# EAGLE library part 4-794620-4 (library con-tyco-micro-mate-n-lok2)
Through Hole 14pos 2row
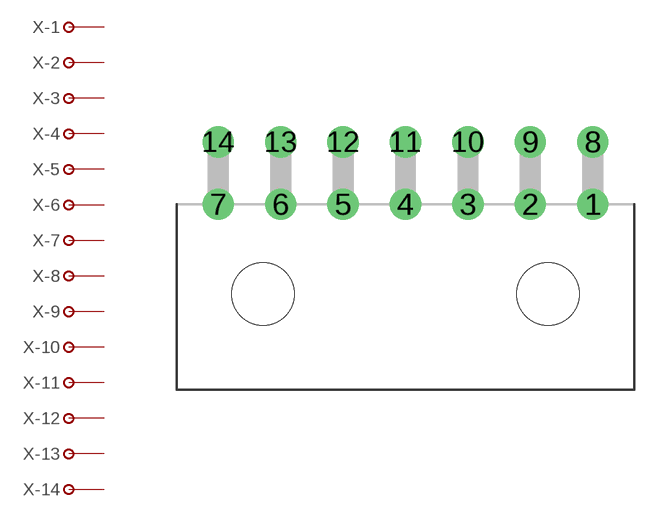
[diagram p0: symbol with the pads of THROUGH_VERTICAL_7X2; footprint THROUGH_VERTICAL_7X2]

Designator prefix X; gates -1=PIN -2=PIN -3=PIN -5=PIN -4=PIN -6=PIN -7=PIN -8=PIN -9=PIN -10=PIN -12=PIN -11=PIN -13=PIN -14=PIN

## 4-794620-4  [THROUGH_VERTICAL_7X2]
1  -1:P$1
2  -2:P$1
3  -3:P$1
4  -4:P$1
5  -5:P$1
6  -6:P$1
7  -7:P$1
8  -8:P$1
9  -9:P$1
10  -10:P$1
11  -11:P$1
12  -12:P$1
13  -13:P$1
14  -14:P$1

## Footprint THROUGH_VERTICAL_7X2 (pad centres in mm)
drill 1: 1 9,0; 2 6,0; 3 3,0; 4 0,0; 5 -3,0; 6 -6,0; 7 -9,0; 8 9,3; 9 6,3; 10 3,3; 11 0,3; 12 -3,3; 13 -6,3; 14 -9,3
hole 3 at 6.85,-4.32
hole 3 at -6.85,-4.32